# Altium footprint library C&K V80212MS02Q.PcbLib: 1 footprints
Each footprint in its own frame and in the unit in brackets; x right, y up, seen from the top. Pads: shape width x height; smd on the part's side, far side on the other; paste and mask are expansions set on the pad; w line width, h text height; cw(c..) or ccw(c..) is an arc to the next point about the centre after c.
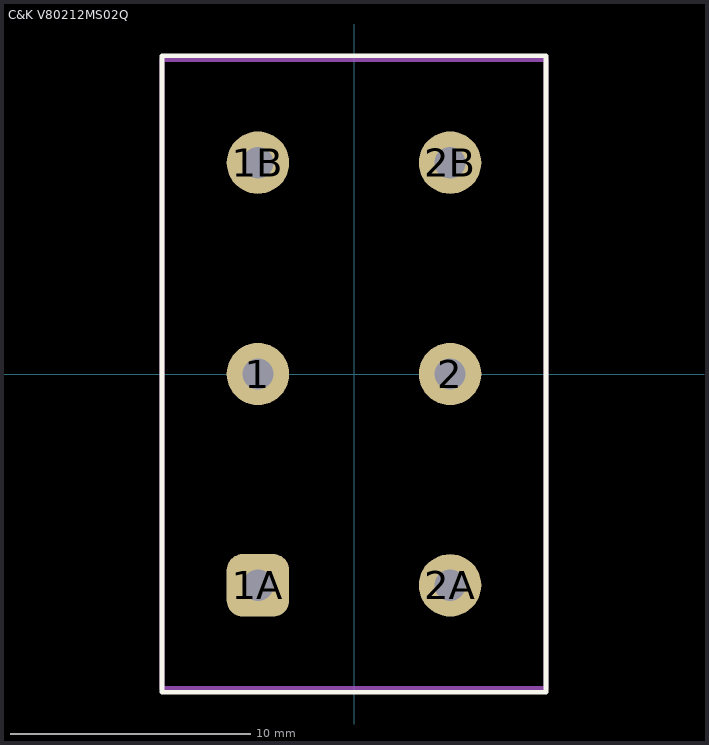
[diagram p0: the footprint, top view; thin cyan lines are the x and y axes]

## C&K V80212MS02Q [mm] "SWITCH PC mount, top actuated"
height 16
pads (6):
  round 2.6 hole 1.3: 1(-4,0) 1B(-4,8.8) 2(4,0) 2A(4,-8.8) 2B(4,8.8)
  rrect50% 2.6x2.6 hole 1.3: 1A(-4,-8.8)
Top Overlay:
  lines w0.2: -8,-13.25 -8,13.25 8,13.25 8,-13.25 -8,-13.25
Top 3D Body:
  lines w0.2: -8,-13.1 8,-13.1 8,13.1 -8,13.1 -8,-13.1
3D body "User Library-Selector 115-230V.step": height 14.75, standoff -3.25, extent -8,-13.095 8,13.095